# Altium schematic symbol library tpd6e05u06rvzr.SchLib: 1 symbol
Pins are listed as number, name and electrical type; pins without a type are passive.

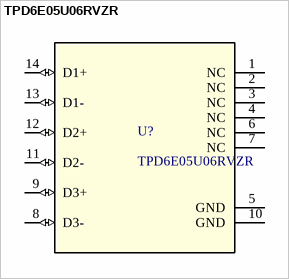
[diagram p0: symbol TPD6E05U06RVZR]

## TPD6E05U06RVZR
designator U?
6 channel 0.5-pF, 5.5-V, Â±12-kV ESD protection diode for USB,  HDMI & High Speed Interfaces 14-USON -40 to 125; Manufacturer_Name: Texas Instruments; TYPE: TYPE; RefDes: RefDes; Copyright: Copyright (C) 2025 Ultra Librarian. All rights reserved.; Manufacturer_Part_Number: TPD6E05U06RVZR
footprint RVZ0014A
pins: 1 NC, 2 NC, 3 NC, 4 NC, 5 GND (power), 6 NC, 7 NC, 8 D3- (io), 9 D3+ (io), 10 GND (power), 11 D2- (io), 12 D2+ (io), 13 D1- (io), 14 D1+ (io)